# EAGLE library part FSA2466 (library Switch_P4)
FSA2466 Data/Audio Low-Voltage Dual DPDT Analog Switch
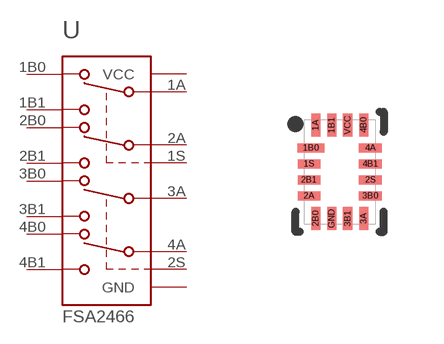
[diagram p1: symbol with the pads of 16-UFQFN; footprint 16-UFQFN]

Designator prefix U

## FSA2466UMX  [16-UFQFN]
1A  1A  pas
1B0  1B0  pas
1B1  1B1  pas
1S  1S  in
2A  2A  pas
2B0  2B0  pas
2B1  2B1  pas
2S  2S  pas
3A  3A  pas
3B0  3B0  pas
3B1  3B1  pas
4A  4A  pas
4B0  4B0  pas
4B1  4B1  pas
GND  GND  pwr
VCC  VCC  pwr

## Footprint 16-UFQFN (pad centres in mm)
16-UFQFN, Pins are numbered to match FSA2466UMX
smd 0.225 x 0.563: 1A -0.6,1.169; 1B1 -0.2,1.169; 2B0 -0.6,-1.169; 3A 0.6,-1.169; 3B1 0.2,-1.169; 4B0 0.6,1.169; GND -0.2,-1.169; VCC 0.2,1.169
smd 0.663 x 0.225: 1B0 -0.719,0.6
smd 0.563 x 0.225: 1S -0.768,0.2; 2A -0.768,-0.6; 2B1 -0.768,-0.2; 2S 0.768,-0.2; 3B0 0.768,-0.6; 4A 0.768,0.6; 4B1 0.768,0.2